# EAGLE library part LT1129 (library voltage_regulators)
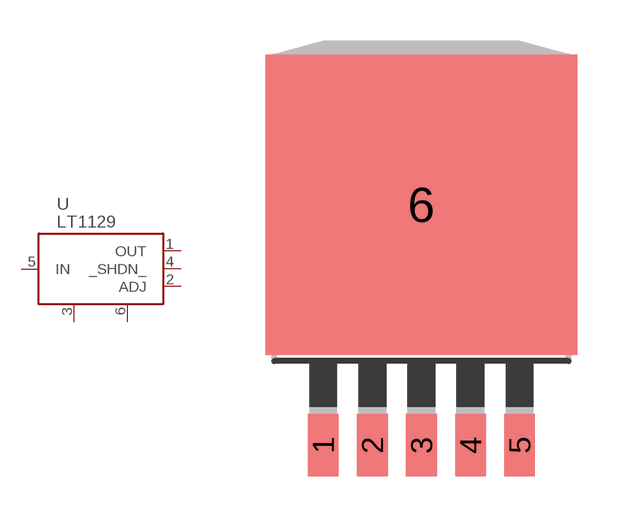
[diagram p0: symbol with the pads of TO263-5; footprint TO263-5]

Designator prefix -

## LT1129  [TO263-5]
1  OUT  pas
2  ADJ  pas
3  GND  in
4  _SHDN_  pas
5  IN  in
6  GND_TAB  in

## Footprint TO263-5 (pad centres in mm)
smd 1.067 x 2.159: 1 -3.404,-8.331; 2 -1.702,-8.331; 3 0,-8.331; 4 1.702,-8.331; 5 3.404,-8.331
smd 10.8 x 10.41: 6 0,0